# EAGLE library part FTDI_CONNECTOR (library fablab)
FTDI connector smd
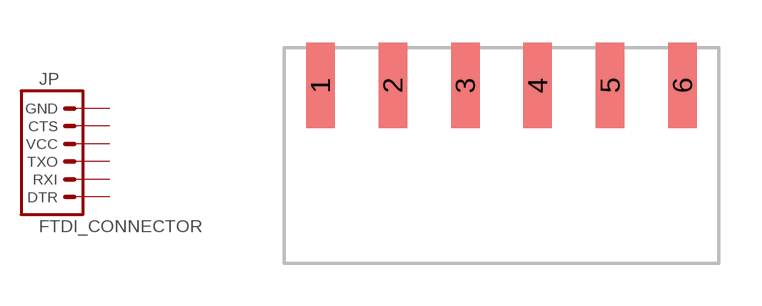
[diagram p6: symbol with the pads of 1X06; footprint 1X06]

Designator prefix JP

## FTDI_CONNECTORSMD  [1X06]
1  DTR  pas
2  RXI  pas
3  TXO  pas
4  VCC  pas
5  CTS  pas
6  GND  pas

## Footprint 1X06 (pad centres in mm)
smd 1 x 3: 1 -6.35,5; 2 -3.81,5; 3 -1.27,5; 4 1.27,5; 5 3.81,5; 6 6.35,5